# Altium schematic symbol library DB_BRIDGE-RECT.Schlib: 1 symbol
Pins are listed as number, name and electrical type; pins without a type are passive.

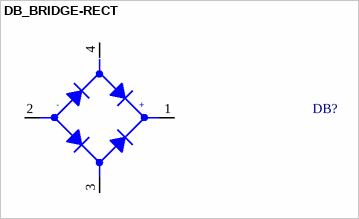
[diagram p0: symbol DB_BRIDGE-RECT]

## DB_BRIDGE-RECT
designator DB?
pins: 1 +DC, 2 -DC, 3 AC2, 4 AC1
text: -; +